# EAGLE library part MICROSD_SOCKET_AMPHENOL (library miller)
microSD card socket Amphenol 114-00841
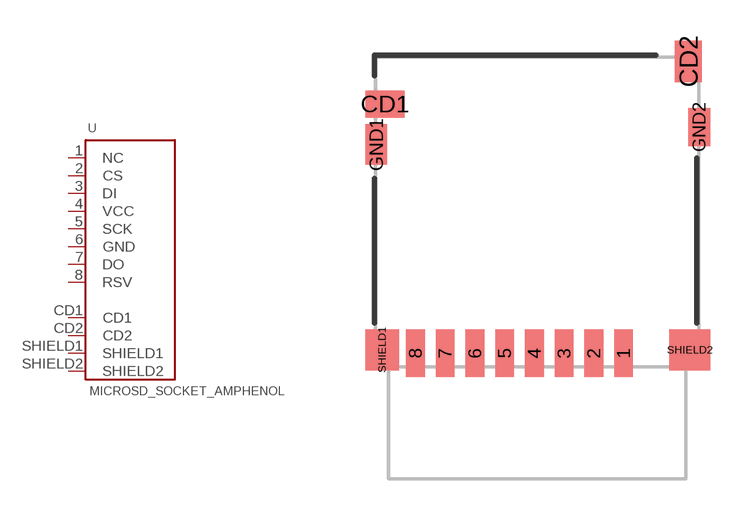
[diagram p1: symbol with the pads of MICROSD_SOCKET_AMPHENOL; footprint MICROSD_SOCKET_AMPHENOL]

Designator prefix U

## MICROSD_SOCKET_AMPHENOL  [MICROSD_SOCKET_AMPHENOL]
1  NC
2  CS
3  DI
4  VCC  pwr
5  SCK
6  GND  pwr
7  DO  out
8  RSV
CD1  CD1
CD2  CD2
SHIELD1  SHIELD1
SHIELD2  SHIELD2

## Footprint MICROSD_SOCKET_AMPHENOL (pad centres in mm)
microSD card socket Amphenol 114-00841
smd 0.7 x 1.75: 1 7.7,-0.875; 2 6.6,-0.875; 3 5.5,-0.875; 4 4.4,-0.875; 5 3.3,-0.875; 6 2.2,-0.875; 7 1.1,-0.875; 8 0,-0.875
smd 1.45 x 1: CD1 -1.125,8.35
smd 1 x 1.55: CD2 10.1,9.925
smd 0.8 x 1.5: GND1 -1.45,6.85
smd 0.8 x 1.4: GND2 10.5,7.5
smd 1.245 x 1.5: SHIELD1 -1.232,-0.75
smd 1.5 x 1.5: SHIELD2 10.15,-0.75